# EAGLE library part 6270XX20621_62704420621 (library con-wurth)
WR-BHD 1.27 mm Male SMT Box Header KIND PROPERTIES: Pitch 1.27 mm Gender:Male MATERIAL PROPERTIES: Insulator Material Nylon 9T Insulator Flammability Rating UL94 V-0 Insulator Color Black Contact Material Brass Contact Plating Gold over Nickel GENERAL INFORMATION: Operating Temperature -40 up to +105 °C Working Voltage 50 V (AC) Withstanding Voltage 500 V (AC) Contact Resistance 20 mΩ RISO 1000 MΩ CERTIFICATION: UL Approval E323964 <https://www.we-online.com/catalog/media/o375406v209%20Family_WR-BHD_6270xx20621.jpg> Details see: https://www.we-online.com/catalog/en/WR_BHD_1_27_MM_MALE_SMT_BOX_HEADER Created by Ella Wu 2021-08-24 2021 (C) Würth Elektronik
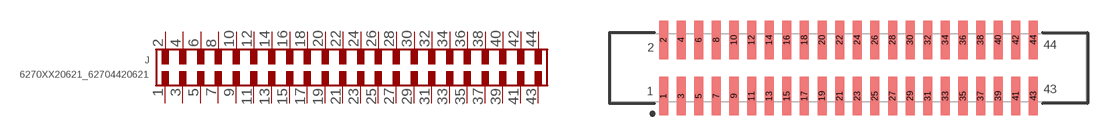
[diagram p145: symbol with the pads of 62704420621; footprint 62704420621]

Designator prefix J

## 6270XX20621_62704420621 (CONTACT-RESISTANCE: 20mOhm; DATASHEET-URL: https://www.we-online.com/redexpert/spec/62704420621?ae; GENDER: Male; IR: 1A; LENGTH: 34.29mm; MOUNT: SMT; PART-NUMBER: 62704420621; PINS: 44; PITCH: 1.27mm; TYPE: Straight; VALUE: 62704420621; WORKING-VOLTAGE: 50V(AC))  [62704420621]
1  1  pas
2  2  pas
3  3  pas
4  4  pas
5  5  pas
6  6  pas
7  7  pas
8  8  pas
9  9  pas
10  10  pas
11  11  pas
12  12  pas
13  13  pas
14  14  pas
15  15  pas
16  16  pas
17  17  pas
18  18  pas
19  19  pas
20  20  pas
21  21  pas
22  22  pas
23  23  pas
24  24  pas
25  25  pas
26  26  pas
27  27  pas
28  28  pas
29  29  pas
30  30  pas
31  31  pas
32  32  pas
33  33  pas
34  34  pas
35  35  pas
36  36  pas
37  37  pas
38  38  pas
39  39  pas
40  40  pas
41  41  pas
42  42  pas
43  43  pas
44  44  pas

## Footprint 62704420621 (pad centres in mm)
WR-BHD 1.27 mm Male SMT Box Header Pitch: 1.27mm, 44pins, SMT
smd 0.65 x 2.76: 1 -13.335,-2.02; 2 -13.335,2.02; 3 -12.065,-2.02; 4 -12.065,2.02; 5 -10.795,-2.02; 6 -10.795,2.02; 7 -9.525,-2.02; 8 -9.525,2.02; 9 -8.255,-2.02; 10 -8.255,2.02; 11 -6.985,-2.02; 12 -6.985,2.02; 13 -5.715,-2.02; 14 -5.715,2.02; 15 -4.445,-2.02; 16 -4.445,2.02; 17 -3.175,-2.02; 18 -3.175,2.02; 19 -1.905,-2.02; 20 -1.905,2.02; 21 -0.635,-2.02; 22 -0.635,2.02; 23 0.635,-2.02; 24 0.635,2.02; 25 1.905,-2.02; 26 1.905,2.02; 27 3.175,-2.02; 28 3.175,2.02; 29 4.445,-2.02; 30 4.445,2.02; 31 5.715,-2.02; 32 5.715,2.02; 33 6.985,-2.02; 34 6.985,2.02; 35 8.255,-2.02; 36 8.255,2.02; 37 9.525,-2.02; 38 9.525,2.02; 39 10.795,-2.02; 40 10.795,2.02; 41 12.065,-2.02; 42 12.065,2.02; 43 13.335,-2.02; 44 13.335,2.02